# Altium footprint library PcbLib1.PcbLib: 1 footprints
Each footprint in its own frame and in the unit in brackets; x right, y up, seen from the top. Pads: shape width x height; smd on the part's side, far side on the other; paste and mask are expansions set on the pad; w line width, h text height; cw(c..) or ccw(c..) is an arc to the next point about the centre after c.
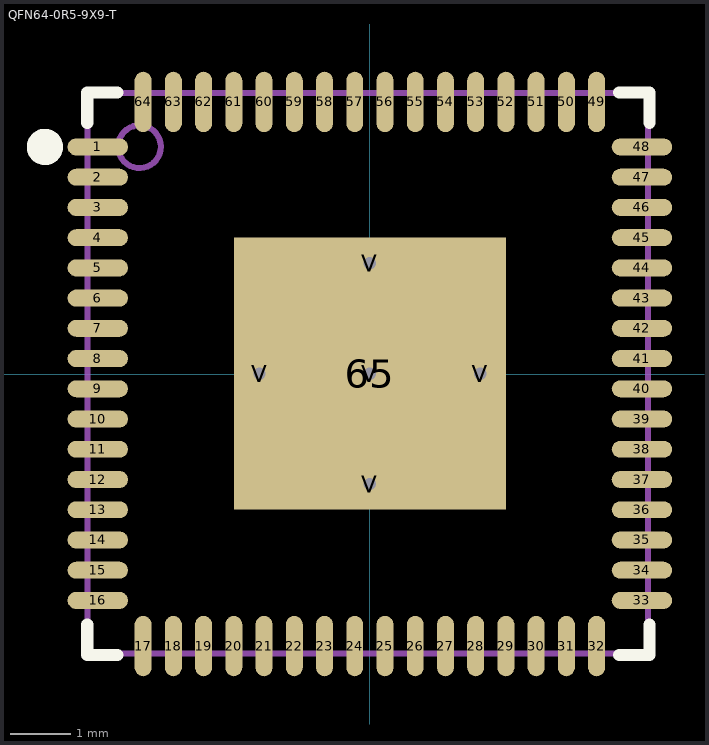
[diagram p0: the footprint, top view; thin cyan lines are the x and y axes]

## QFN64-0R5-9X9-T [mm]
pads (70):
  oval 1x0.28 smd: 1(-4.5,3.755) 2(-4.5,3.255) 3(-4.5,2.755) 4(-4.5,2.255) 5(-4.5,1.755) 6(-4.5,1.255) 7(-4.5,0.755) 8(-4.5,0.255) 9(-4.5,-0.245) 10(-4.5,-0.745) 11(-4.5,-1.245) 12(-4.5,-1.745) 13(-4.5,-2.245) 14(-4.5,-2.745) 15(-4.5,-3.245) 16(-4.5,-3.745) 33(4.5,-3.745) 34(4.5,-3.245) 35(4.5,-2.745) 36(4.5,-2.245) 37(4.5,-1.745) 38(4.5,-1.245) 39(4.5,-0.745) 40(4.5,-0.245) 41(4.5,0.255) 42(4.5,0.755) 43(4.5,1.255) 44(4.5,1.755) 45(4.5,2.255) 46(4.5,2.755) 47(4.5,3.255) 48(4.5,3.755)
  oval 0.28x1 smd: 17(-3.75,-4.5) 18(-3.25,-4.5) 19(-2.75,-4.5) 20(-2.25,-4.5) 21(-1.75,-4.5) 22(-1.25,-4.5) 23(-0.75,-4.5) 24(-0.25,-4.5) 25(0.25,-4.5) 26(0.75,-4.5) 27(1.25,-4.5) 28(1.75,-4.5) 29(2.25,-4.5) 30(2.75,-4.5) 31(3.25,-4.5) 32(3.75,-4.5) 49(3.75,4.5) 50(3.25,4.5) 51(2.75,4.5) 52(2.25,4.5) 53(1.75,4.5) 54(1.25,4.5) 55(0.75,4.5) 56(0.25,4.5) 57(-0.25,4.5) 58(-0.75,4.5) 59(-1.25,4.5) 60(-1.75,4.5) 61(-2.25,4.5) 62(-2.75,4.5) 63(-3.25,4.5) 64(-3.75,4.5)
  rect 4.5x4.5 smd: 65(0,0.005)
  round 0.5 / inner round 1.524 / far side round 0.5 hole 0.203 mask+0.051: V(-1.825,0.005) V(0,-1.82) V(0,0.005) V(0,1.83) V(1.825,0.005)
Top Overlay:
  circle w0.3: c-5.375,3.755 r0.15
  lines w0.2: -4.675,-4.145 -4.675,-4.645 -4.175,-4.645 ; -4.675,4.155 -4.675,4.655 -4.175,4.655 ; 4.125,-4.645 4.625,-4.645 4.625,-4.145 ; 4.125,4.655 4.625,4.655 4.625,4.155
Mechanical 13:
  circle w0.1: c-3.81,3.759 r0.354
  lines w0.1: -4.674,-4.623 4.597,-4.623 4.597,4.648 -4.674,4.648 -4.674,-4.623
3D body: height 0.9, standoff 0, extent -4.52,-4.52 4.52,4.52